# EAGLE library part TINYMEGA (library tinymega)
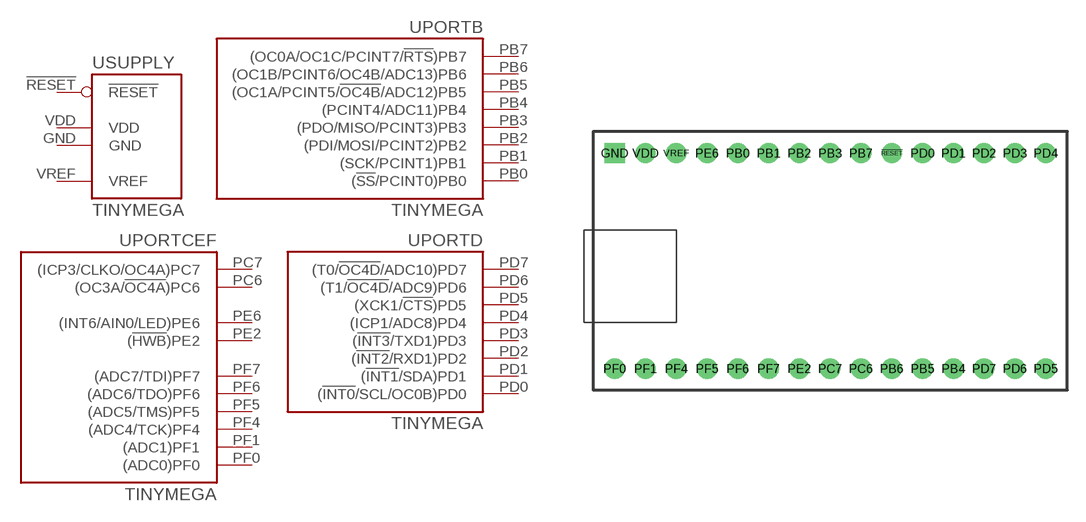
[diagram p0: symbol with the pads of TINYMEGA; footprint TINYMEGA]

Designator prefix -; gates SUPPLY=TINYMEGA_SUPPLY PORTB=TINYMEGA_PORTB PORTD=TINYMEGA_PORTD PORTCEF=TINYMEGA_PORTCEF

## TINYMEGA  [TINYMEGA]
!RESET  SUPPLY:!RESET  in
GND  SUPPLY:GND  pwr
PB0  PORTB:(!SS!/PCINT0)PB0
PB1  PORTB:(SCK/PCINT1)PB1
PB2  PORTB:(PDI/MOSI/PCINT2)PB2
PB3  PORTB:(PDO/MISO/PCINT3)PB3
PB4  PORTB:(PCINT4/ADC11)PB4
PB5  PORTB:(OC1A/PCINT5/!OC4B!/ADC12)PB5
PB6  PORTB:(OC1B/PCINT6/OC4B/ADC13)PB6
PB7  PORTB:(OC0A/OC1C/PCINT7/!RTS!)PB7
PC6  PORTCEF:(OC3A/!OC4A!)PC6
PC7  PORTCEF:(ICP3/CLKO/OC4A)PC7
PD0  PORTD:(!INT0!/SCL/OC0B)PD0
PD1  PORTD:(!INT1!/SDA)PD1
PD2  PORTD:(!INT2!/RXD1)PD2
PD3  PORTD:(!INT3!/TXD1)PD3
PD4  PORTD:(ICP1/ADC8)PD4
PD5  PORTD:(XCK1/!CTS!)PD5
PD6  PORTD:(T1/!OC4D!/ADC9)PD6
PD7  PORTD:(T0/!OC4D!/ADC10)PD7
PE2  PORTCEF:(!HWB!)PE2
PE6  PORTCEF:(INT6/AIN0/LED)PE6
PF0  PORTCEF:(ADC0)PF0
PF1  PORTCEF:(ADC1)PF1
PF4  PORTCEF:(ADC4/TCK)PF4
PF5  PORTCEF:(ADC5/TMS)PF5
PF6  PORTCEF:(ADC6/TDO)PF6
PF7  PORTCEF:(ADC7/TDI)PF7
VDD  SUPPLY:VDD  pwr
VREF  SUPPLY:VREF  pwr

## Footprint TINYMEGA (pad centres in mm)
drill 1 pad 1.676: !RESET 5.08,7.62; PB0 -7.62,7.62; PB1 -5.08,7.62; PB2 -2.54,7.62; PB3 0,7.62; PB4 10.16,-10.16; PB5 7.62,-10.16; PB6 5.08,-10.16; PB7 2.54,7.62; PC6 2.54,-10.16; PC7 0,-10.16; PD0 7.62,7.62; PD1 10.16,7.62; PD2 12.7,7.62; PD3 15.24,7.62; PD4 17.78,7.62; PD5 17.78,-10.16; PD6 15.24,-10.16; PD7 12.7,-10.16; PE2 -2.54,-10.16; PE6 -10.16,7.62; PF0 -17.78,-10.16; PF1 -15.24,-10.16; PF4 -12.7,-10.16; PF5 -10.16,-10.16; PF6 -7.62,-10.16; PF7 -5.08,-10.16; VDD -15.24,7.62; VREF -12.7,7.62
drill 1 pad 1.676 square: GND -17.78,7.62